# EAGLE library part 615080243321 (library Wuerth_Elektronik_eiCan_Modular_Jack_Connectors_v1.1)
WR-MJ Horizontal Shielded 2 x 5 Stacked Port with EMI Panel Finger 8P8C Modular Jack Tab Up & Down, 80 Pins
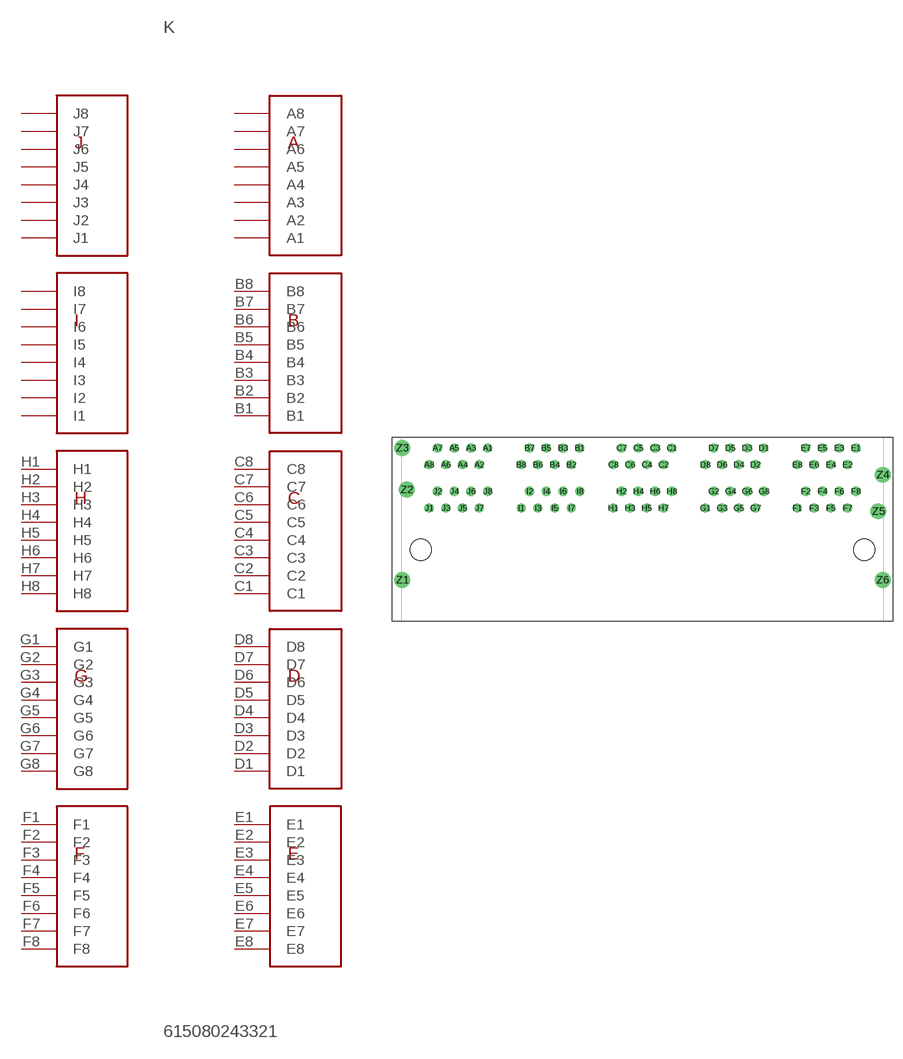
[diagram p19: symbol with the pads of 615080243321; footprint 615080243321]

Designator prefix K

## 615080243321  [615080243321]
A1  A1  pas
A2  A2  pas
A3  A3  pas
A4  A4  pas
A5  A5  pas
A6  A6  pas
A7  A7  pas
A8  A8  pas
B1  B1  pas
B2  B2  pas
B3  B3  pas
B4  B4  pas
B5  B5  pas
B6  B6  pas
B7  B7  pas
B8  B8  pas
C1  C1  pas
C2  C2  pas
C3  C3  pas
C4  C4  pas
C5  C5  pas
C6  C6  pas
C7  C7  pas
C8  C8  pas
D1  D1  pas
D2  D2  pas
D3  D3  pas
D4  D4  pas
D5  D5  pas
D6  D6  pas
D7  D7  pas
D8  D8  pas
E1  E1  pas
E2  E2  pas
E3  E3  pas
E4  E4  pas
E5  E5  pas
E6  E6  pas
E7  E7  pas
E8  E8  pas
F1  F1  pas
F2  F2  pas
F3  F3  pas
F4  F4  pas
F5  F5  pas
F6  F6  pas
F7  F7  pas
F8  F8  pas
G1  G1  pas
G2  G2  pas
G3  G3  pas
G4  G4  pas
G5  G5  pas
G6  G6  pas
G7  G7  pas
G8  G8  pas
H1  H1  pas
H2  H2  pas
H3  H3  pas
H4  H4  pas
H5  H5  pas
H6  H6  pas
H7  H7  pas
H8  H8  pas
I1  I1  pas
I2  I2  pas
I3  I3  pas
I4  I4  pas
I5  I5  pas
I6  I6  pas
I7  I7  pas
I8  I8  pas
J1  J1  pas
J2  J2  pas
J3  J3  pas
J4  J4  pas
J5  J5  pas
J6  J6  pas
J7  J7  pas
J8  J8  pas

## Footprint 615080243321 (pad centres in mm)
WR-MJ Horizontal Shielded 2 x 5 Stacked Port with EMI Panel Finger 8P8C Modular Jack Tab Up & Down, 80 Pins
drill 0.89 round: A1 -23.495,0.865; A2 -24.765,-1.675; A3 -26.035,0.865; A4 -27.305,-1.675; A5 -28.575,0.865; A6 -29.845,-1.675; A7 -31.115,0.865; A8 -32.385,-1.675; B1 -9.525,0.865; B2 -10.795,-1.675; B3 -12.065,0.865; B4 -13.335,-1.675; B5 -14.605,0.865; B6 -15.875,-1.675; B7 -17.145,0.865; B8 -18.415,-1.675; C1 4.445,0.865; C2 3.175,-1.675; C3 1.905,0.865; C4 0.635,-1.675; C5 -0.635,0.865; C6 -1.905,-1.675; C7 -3.175,0.865; C8 -4.445,-1.675; D1 18.415,0.865; D2 17.145,-1.675; D3 15.875,0.865; D4 14.605,-1.675; D5 13.335,0.865; D6 12.065,-1.675; D7 10.795,0.865; D8 9.525,-1.675; E1 32.385,0.865; E2 31.115,-1.675; E3 29.845,0.865; E4 28.575,-1.675; E5 27.305,0.865; E6 26.035,-1.675; E7 24.765,0.865; E8 23.495,-1.675; F1 23.495,-8.255; F2 24.765,-5.715; F3 26.035,-8.255; F4 27.305,-5.715; F5 28.575,-8.255; F6 29.845,-5.715; F7 31.115,-8.255; F8 32.385,-5.715; G1 9.525,-8.255; G2 10.795,-5.715; G3 12.065,-8.255; G4 13.335,-5.715; G5 14.605,-8.255; G6 15.875,-5.715; G7 17.145,-8.255; G8 18.415,-5.715; H1 -4.445,-8.255; H2 -3.175,-5.715; H3 -1.905,-8.255; H4 -0.635,-5.715; H5 0.635,-8.255; H6 1.905,-5.715; H7 3.175,-8.255; H8 4.445,-5.715; I1 -18.415,-8.255; I2 -17.145,-5.715; I3 -15.875,-8.255; I4 -14.605,-5.715; I5 -13.335,-8.255; I6 -12.065,-5.715; I7 -10.795,-8.255; I8 -9.525,-5.715; J1 -32.385,-8.255; J2 -31.115,-5.715; J3 -29.845,-8.255; J4 -28.575,-5.715; J5 -27.305,-8.255; J6 -26.035,-5.715; J7 -24.765,-8.255; J8 -23.495,-5.715
drill 1.6 round: Z1 -36.45,-19.175; Z2 -35.775,-5.465; Z3 -36.45,0.865; Z4 36.45,-3.205; Z5 35.775,-8.765; Z6 36.45,-19.175
hole 3.25 at -33.655,-14.605
hole 3.25 at 33.655,-14.605